# Altium integrated library Molex Serial Bus Mini USB.IntLib: 2 symbols
Pins are listed as number, name and electrical type; pins without a type are passive.

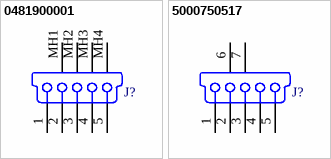
[diagram p0: symbols 0481900001 to 5000750517]

## 0481900001
designator J?
USB On-The-Go (OTG) Mini-B Receptacle, Right Angle, SMT, 0.80mm (.031") Pitch, Solder Tabs with Back Cover, Recessed Type; PCB_Layout: Complies with Manufacturer's Recommendation.; Published: 21-Sep-2007; DatasheetVersion: revA, May-2004; PackageVersion: May-2004; PackageReference: 481900001; Publisher: Altium Limited; PackageDescription: USB Mini-B, Sinking Type, SM; 5 Position; Right Angle, Body 11.45 x 11.8 x 3.9 mm (LxWxH); ComponentLink1Description: Manufacturer Link; ComponentLink1URL: http://www.molex.com/; ComponentLink2Description: Datasheet; ComponentLink2URL: http://www.molex.com/cmc_upload/0/000/895/958/SD-48190-001RevA.pdf
footprint 481900001 (Connector; USB Mini-B, Sinking Type, SM; 5 Position; Right Angle)
signal-integrity model USB Mini-B
pins: 1 V BUS (5V) "USB Vcc [Red]", 2 D- "USB Data - [White]", 3 D+ "USB Data + [Green]", 4 NC "Not Connected (or joined to pin 5 via resistor)", 5 GND "Ground [Black]", MH1 Tab "Shell", MH2 Tab "Shell", MH3 Tab "Shell", MH4 Tab "Shell"

## 5000750517
designator J?
USB On-The-Go (OTG) Mini-B Receptacle, Right Angle, Thru-Hole, 0.80mm (.031") Pitch, Solder Tails & Shell Tabs with Dimples; PCB_Layout: Complies with Manufacturer's Recommendation.; Published: 30-May-2008; DatasheetVersion: rev0, Mar-2004; PackageVersion: rev0, Mar-2004; PackageReference: 5000750517; Publisher: Altium Limited; PackageDescription: USB Mini-B, Type 2, Thru-Hole; 5 Position; Vertical, Body 7.7 x 4.2 x 7.7 mm (LxWxH); ComponentLink1Description: Manufacturer Link; ComponentLink1URL: http://www.molex.com/; ComponentLink2Description: Datasheet; ComponentLink2URL: http://www.molex.com/pdm_docs/sd/5000750517_sd.pdf
footprint 5000750517 (Connector; USB Mini-B, Type 2, Thru-Hole; 5 Position; Vertical)
signal-integrity model USB Mini-B
pins: 1 V BUS "USB Vcc [Red]", 2 D- "USB Data - [White]", 3 D+ "USB Data + [Green]", 4 ID, 5 GND "Ground [Black]", 6 MH1 "Shell", 7 MH2 "Shell"